# Altium schematic symbol library TAS5760LDAPR.SchLib: 1 symbol
Pins are listed as number, name and electrical type; pins without a type are passive.

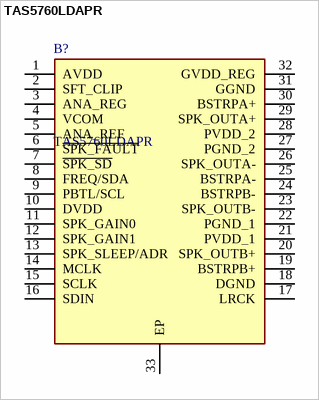
[diagram p0: symbol TAS5760LDAPR]

## TAS5760LDAPR
designator B?
Closed Loop I2S Input Amplifier with Power Limiter, PVDDmax of 16.5V; Manufacturer_Name: Texas Instruments; Geometry.Height: 1.2mm; Mouser Part Number: 595-TAS5760LDAPR; Mouser Price/Stock: https://www.mouser.co.uk/ProductDetail/Texas-Instruments/TAS5760LDAPR?qs=ZLZ8689ywa3IfleZRfchzQ%3D%3D; Manufacturer_Part_Number: TAS5760LDAPR; Datasheet Link: http://www.ti.com/lit/gpn/tas5760l
footprint SOP65P810X120-33N
pins: 1 AVDD, 2 SFT_CLIP, 3 ANA_REG, 4 VCOM, 5 ANA_REF, 6 ~{SPK_FAULT}, 7 ~{SPK_SD}, 8 FREQ/SDA, 9 PBTL/SCL, 10 DVDD, 11 SPK_GAIN0, 12 SPK_GAIN1, 13 SPK_SLEEP/ADR, 14 MCLK, 15 SCLK, 16 SDIN, 17 LRCK, 18 DGND, 19 BSTRPB+, 20 SPK_OUTB+, 21 PVDD_1, 22 PGND_1, 23 SPK_OUTB-, 24 BSTRPB-, 25 BSTRPA-, 26 SPK_OUTA-, 27 PGND_2, 28 PVDD_2, 29 SPK_OUTA+, 30 BSTRPA+, 31 GGND, 32 GVDD_REG, 33 EP